# Altium schematic symbol library Buffers.SchLib: 11 symbols
Pins are listed as number, name and electrical type; pins without a type are passive.

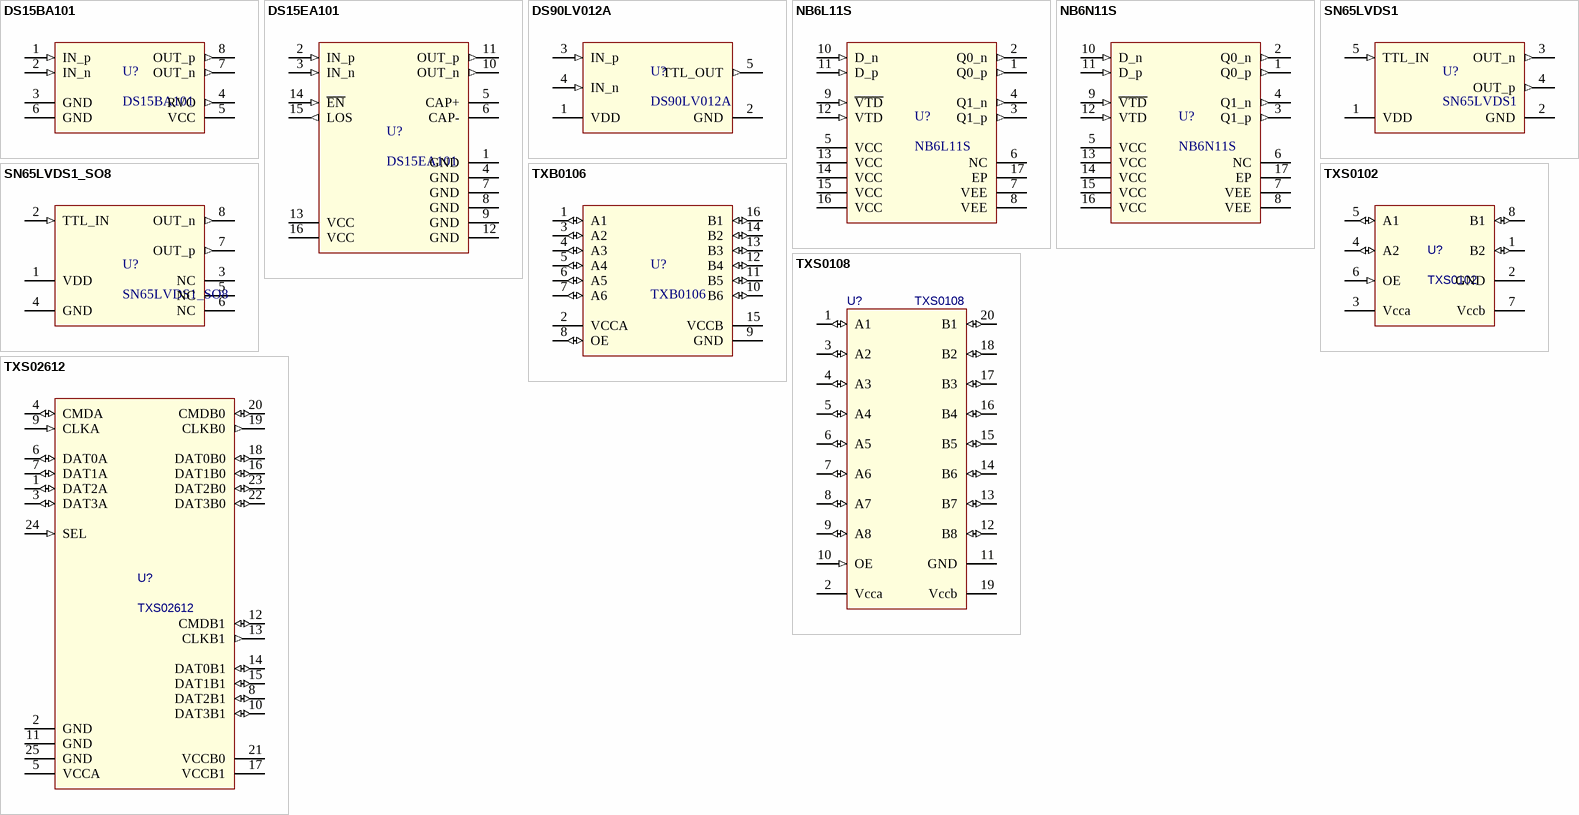
[diagram p0: symbols DS15BA101 to TXS02612]

## DS15BA101
designator U?
1.5 Gbps Differential Buffer with Adjustable Output Voltage
footprint WSON8 (NGQ0008A, DS15BA101)
pins: 1 IN_p (in) "Non-inverting input pin.", 2 IN_n (in) "Inverting input pin.", 3 GND (power) "Circuit common (ground reference).", 4 RVO (out) "Output voltage amplitude control. Connect a resistor to VCC to set output voltage.", 5 VCC (power) "Positive power supply (+3.3V).", 6 GND (power) "Circuit common (ground reference).", 7 OUT_n (out) "Inverting output pin.", 8 OUT_p (out) "Non-inverting output pin."

## DS15EA101
designator U?
0.15 to 1.5 Gbps Adaptive Cable Equalizer with LOS Detection
footprint WQFN16 (RGH0016A, DS15EA101)
pins: 1 GND (power) "Ground pin.", 2 IN_p (in) "Non-inverting input pin.", 3 IN_n (in) "Inverting input pin.", 4 GND (power) "Ground pin.", 5 CAP+ (power) "Loop filter positive pin.", 6 CAP- (power) "Loop filter negative pin.", 7 GND (power) "Ground pin.", 8 GND (power) "Ground pin.", 9 GND (power) "Ground pin.", 10 OUT_n (out) "Inverting output pin.", 11 OUT_p (out) "Non-inverting output pin.", 12 GND (power) "Ground pin.", 13 VCC (power) "Power supply pin.", 14 ~{EN} (in) "Output enable pin.", 15 LOS (out) "Los of signal circuitry output pin.", 16 VCC (power) "Power supply pin."

## DS90LV012A
designator U?
DS90LV012A /DS90LT012A 3V LVDS Single CMOS Differential Line Receiver.
footprint SOT23-5 (DBV0005A, DS90LT012A) (SOT23, 5-Leads, Body 2.90x2.80mm, Pitch 0.95mm, IPC Medium Density)
pins: 1 VDD (power) "Positive power supply.", 2 GND (power) "Ground.", 3 IN_p (in) "Non-inverting input pin.", 4 IN_n (in) "Inverting input pin.", 5 TTL_OUT (out) "TTL output pin."

## NB6L11S
designator U?
2.5 V 1:2 AnyLevel Input to LVDS Fanout Buffer/Translator.
footprint QFN16 (QFN16 3x3 0.5P)
pins: 1 Q0_p (out) "Non−inverted D output. Typically loaded with 100  receiver termination", 2 Q0_n (out) "Inverted D output. Typically loaded with 100  receiver termination resistor", 3 Q1_p (out) "Non−inverted D output. Typically loaded with 100  receiver termination", 4 Q1_n (out) "Inverted D output. Typically loaded with 100  receiver termination resistor", 5 VCC (power) "Positive power supply.", 6 NC "No Connect.", 7 VEE (power) "Negative Supply Voltage.", 8 VEE (power) "Negative Supply Voltage.", 9 ~{VTD} (in) "Internal 50  termination pin for D.", 10 D_n (in) "Inverted Differential Clock/Data Input (Note 1).", 11 D_p (in) "Non−inverted Differential Clock/Data Input (Note 1).", 12 VTD (in) "Internal 50  termination pin for D.", 13 VCC (power) "Positive power supply.", 14 VCC (power) "Positive power supply.", 15 VCC (power) "Positive power supply.", 16 VCC (power) "Positive power supply.", 17 EP "Exposed pad. The exposed pad (EP) on the package bottom must be"

## NB6N11S
designator U?
3.3V 1:2 AnyLevel Input to LVDS Fanout Buffer/Translator.
footprint QFN16 (QFN16 3x3 0.5P)
pins: 1 Q0_p (out) "Non−inverted D output. Typically loaded with 100  receiver termination", 2 Q0_n (out) "Inverted D output. Typically loaded with 100  receiver termination resistor", 3 Q1_p (out) "Non−inverted D output. Typically loaded with 100  receiver termination", 4 Q1_n (out) "Inverted D output. Typically loaded with 100  receiver termination resistor", 5 VCC (power) "Positive power supply.", 6 NC "No Connect.", 7 VEE (power) "Negative Supply Voltage.", 8 VEE (power) "Negative Supply Voltage.", 9 ~{VTD} (in) "Internal 50  termination pin for D.", 10 D_n (in) "Inverted Differential Clock/Data Input (Note 1).", 11 D_p (in) "Non−inverted Differential Clock/Data Input (Note 1).", 12 VTD (in) "Internal 50  termination pin for D.", 13 VCC (power) "Positive power supply.", 14 VCC (power) "Positive power supply.", 15 VCC (power) "Positive power supply.", 16 VCC (power) "Positive power supply.", 17 EP "Exposed pad. The exposed pad (EP) on the package bottom must be"

## SN65LVDS1
designator U?
SN65LVDxx High-Speed Differential Line Drivers and Receivers.
footprint SOT23-5 (DBV0005A, DS90LT012A) (SOT23, 5-Leads, Body 2.90x2.80mm, Pitch 0.95mm, IPC Medium Density)
pins: 1 VDD (power) "Positive power supply.", 2 GND (power) "Ground.", 3 OUT_n (out) "Inverting output pin.", 4 OUT_p (out) "Non-inverting output pin.", 5 TTL_IN (in) "LVTTL input signal."

## SN65LVDS1_SO8
designator U?
SN65LVDxx High-Speed Differential Line Drivers and Receivers.; Manufacturer: Texas Instruments; Part numberr: SN65LVDS1DR
footprint SOIC8 (STMicroelectronics SO8N) (SOIC, 8-Leads, Body 4,90x3,90mm, Pitch 1,27mm, IPC Medium Density)
pins: 1 VDD (power) "Positive power supply.", 2 TTL_IN (in) "LVTTL input signal.", 3 NC, 4 GND (power) "Ground.", 5 NC, 6 NC, 7 OUT_p (out) "Non-inverting output pin.", 8 OUT_n (out) "Inverting output pin."

## TXB0106
designator U?
Bidirectional Level-Shifting and Voltage Translator / With Auto-Direction Sensing and ±15-kV ESD Protection.
footprint SSOP16-150-0.64
pins: 1 A1 (io) "Input/output 1. Referenced to VCCA.", 2 VCCA (power) "A-port supply voltage. 1.2 V ≤ VCCA≤ 3.6 V, VCCA≤ VCCB.", 3 A2 (io) "Input/output 2. Referenced to VCCA.", 4 A3 (io) "Input/output 3. Referenced to VCCA.", 5 A4 (io) "Input/output 4. Referenced to VCCA.", 6 A5 (io) "Input/output 5. Referenced to VCCA.", 7 A6 (io) "Input/output 6. Referenced to VCCA.", 8 OE (io) "Output enable. Pull OE low to place all outputs in Tri-state mode. Referenced to VCCA.", 9 GND (power) "Ground.", 10 B6 (io) "Input/output 6. Referenced to VCCB.", 11 B5 (io) "Input/output 5. Referenced to VCCB.", 12 B4 (io) "Input/output 4. Referenced to VCCB.", 13 B3 (io) "Input/output 3. Referenced to VCCB.", 14 B2 (io) "Input/output 2. Referenced to VCCB.", 15 VCCB (power) "B-port supply voltage. 1.65 V ≤ VCCB ≤ 5.5 V.", 16 B1 (io) "Input/output 1. Referenced to VCCB."

## TXS0102
designator U?
The TXS0102 device is a directionless voltage-level translator specifically designed for translating logic voltage / levels.; Manufacturer: Texas Instruments; Part number: TXS0102DCU
footprint VSSOP8_NOTP
pins: 1 B2 (io) "Input/output B. Referenced to VCCB.", 2 GND (power) "Ground.", 3 Vcca (power) "A-port supply voltage. 1.65 V ≤ VCCA ≤ 3.6 V and VCCA ≤ VCCB", 4 A2 (io) "Input/output A. Referenced to VCCA.", 5 A1 (io) "Input/output A. Referenced to VCCA.", 6 OE (in) "Output enable (active High). Pull OE low to place all outputs in 3-state.", 7 Vccb (power) "B-port supply voltage. 2.3 V ≤ VCCB ≤ 5.5 V", 8 B1 (io) "Input/output B. Referenced to VCCB."

## TXS0108
designator U?
TXS0108 8-Bit Bidirectional Level-Shifting and Voltage Translator for Open-Drain and Push-Pull applications.; Manufacturer: Texas Instruments; Part number: TXB0106PWR
footprint TSSOP20 (TSSOP - 1.2 mm max height, PW0020A)
pins: 1 A1 (io) "Input/output A. Referenced to VCCA.", 2 Vcca (power) "A-port supply voltage. 1.4 V ≤ VCCA ≤ 3.6 V and VCCA ≤ VCCB", 3 A2 (io) "Input/output A. Referenced to VCCA.", 4 A3 (io) "Input/output A. Referenced to VCCA.", 5 A4 (io) "Input/output A. Referenced to VCCA.", 6 A5 (io) "Input/output A. Referenced to VCCA.", 7 A6 (io) "Input/output A. Referenced to VCCA.", 8 A7 (io) "Input/output A. Referenced to VCCA.", 9 A8 (io) "Input/output A. Referenced to VCCA.", 10 OE (in) "Output enable. Pull OE low to place all outputs in Tri-state mode. Referenced to VCCA.", 11 GND (power) "Ground.", 12 B8 (io) "Input/output B. Referenced to VCCB.", 13 B7 (io) "Input/output B. Referenced to VCCB.", 14 B6 (io) "Input/output B. Referenced to VCCB.", 15 B5 (io) "Input/output B. Referenced to VCCB.", 16 B4 (io) "Input/output B. Referenced to VCCB.", 17 B3 (io) "Input/output B. Referenced to VCCB.", 18 B2 (io) "Input/output B. Referenced to VCCB.", 19 Vccb (power) "B-port supply voltage. 1.65 V ≤ VCCB ≤ 5.5 V", 20 B1 (io) "Input/output B. Referenced to VCCB."

## TXS02612
designator U?
SDIO PORT EXPANDER WITH VOLTAGE-LEVEL TRANSLATION; Manufacturer: Texas Instruments; Part number: TXS02612RTWR
footprint WQFN24 (WQFN, 24-Leads, Body 4.00x4.00mm, Pitch 0.50mm, Thermal Pad 2.46x2.46mm, IPC Low Density)
pins: 1 DAT2A (io) "Data bit 2. Referenced to VCCA.", 2 GND (power) "Ground.", 3 DAT3A (io) "Data bit 3. Referenced to VCCA.", 4 CMDA (io) "Command bit. Referenced to VCCA.", 5 VCCA (power) "A-port supply voltage. 1.1 V ≤ VCCA ≤ 3.6 V.", 6 DAT0A (io) "Data bit 0. Referenced to VCCA.", 7 DAT1A (io) "Data bit 1. Referenced to VCCA.", 8 DAT2B1 (io) "Data bit 2. Referenced to VCCB1.", 9 CLKA (in) "Clock input A. Referenced to VCCA.", 10 DAT3B1 (io) "Data bit 3. Referenced to VCCB1.", 11 GND (power) "Ground.", 12 CMDB1 (io) "Command bit. Referenced to VCCB1.", 13 CLKB1 (out) "Clock output. Referenced to VCCB1.", 14 DAT0B1 (io) "Data bit 0. Referenced to VCCB1.", 15 DAT1B1 (io) "Data bit 1. Referenced to VCCB1.", 16 DAT1B0 (io) "Data bit 1. Referenced to VCCB0.", 17 VCCB1 (power) "B1-port supply voltage. 1.1 V ≤ VCCB1 ≤ 3.6 V.", 18 DAT0B0 (io) "Data bit 0. Referenced to VCCB0.", 19 CLKB0 (out) "Clock output. Referenced to VCCB0.", 20 CMDB0 (io) "Command bit. Referenced to VCCB0.", 21 VCCB0 (power) "B0-port supply voltage. 1.1 V ≤ VCCB0 ≤ 3.6 V.", 22 DAT3B0 (io) "Data bit 3. Referenced to VCCB0.", 23 DAT2B0 (io) "Data bit 2. Referenced to VCCB0.", 24 SEL (in) "Select pin to choose between B0 and B1. Referenced to VCCA.", 25 GND (power) "Ground."